# Altium footprint library 2JE04.PcbLib: 1 footprints
Each footprint in its own frame and in the unit in brackets; x right, y up, seen from the top. Pads: shape width x height; smd on the part's side, far side on the other; paste and mask are expansions set on the pad; w line width, h text height; cw(c..) or ccw(c..) is an arc to the next point about the centre after c.
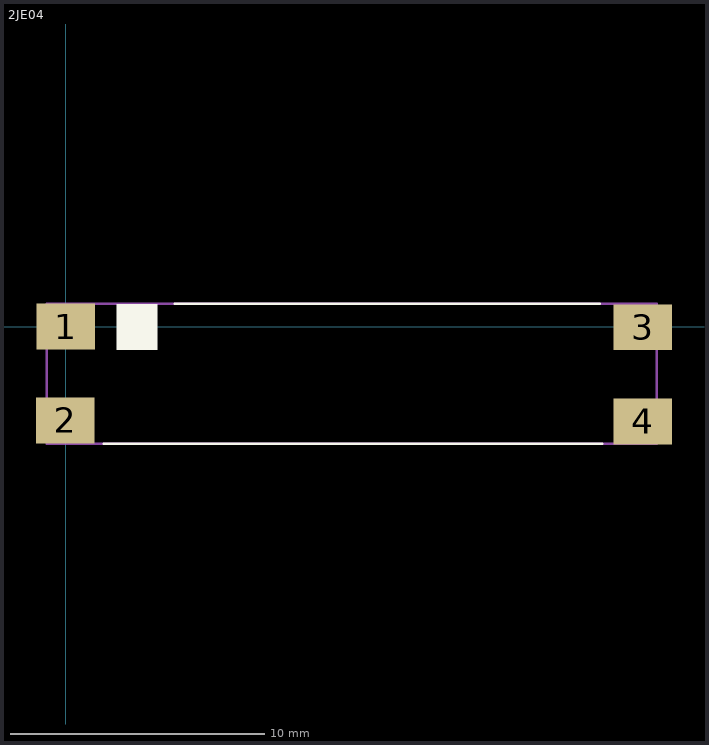
[diagram p0: the footprint, top view; thin cyan lines are the x and y axes]

## 2JE04 [mm]
height 4.4
pads (4):
  rect 2.3x1.8 smd: 1(0,0) 2(-0.02,-3.69) 3(22.71,-0.03) 4(22.71,-3.73)
Top Overlay:
  rectangle: 2.01,-0.93 3.62,0.88
  lines w0.1: 1.5,-4.61 21.1,-4.61 ; 4.29,0.89 21.01,0.89
Mechanical 1:
  lines w0.1: -0.74,-4.61 23.26,-4.61 23.26,0.89 -0.74,0.89 -0.74,-4.61
3D body: height 4.4, standoff 0, extent -0.74,-4.61 23.26,0.89